# Altium schematic symbol library TDN_5.Schlib: 1 symbol
Pins are listed as number, name and electrical type; pins without a type are passive.

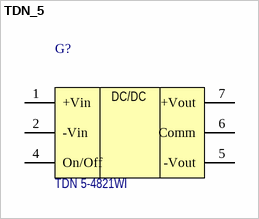
[diagram p0: symbol TDN_5]

## TDN_5
designator G?, comment Наименование: TDN 5-4821WI  (hidden comment: TDN 5-4821)
DC/DC converter; Назначение: DC-DC преобразователь; Потребление, Вт: 0,01; DataSheet: https://www.tracopower.com/sites/default/files/products/datasheets/tdn5wi_datasheet.pdf
footprint TDN_5_WISM (DC/DC converter case)
footprint TDN 5 WISM + WS (DC/DC converter case)
pins: 1 +Vin (power), 2 -Vin (power), 4 On/Off (oc), 5 -Vout (power), 6 Comm (power), 7 +Vout (power)
text: DC/DC